# EAGLE library part LT3462A (library PowerProducts)
LT-Spice library generated with : ltspice.ulp from: E:/Programme/LTC/LTspiceIV/lib/sym/PowerProducts/LT3464*.asy at 05.10.2012 11:13:57
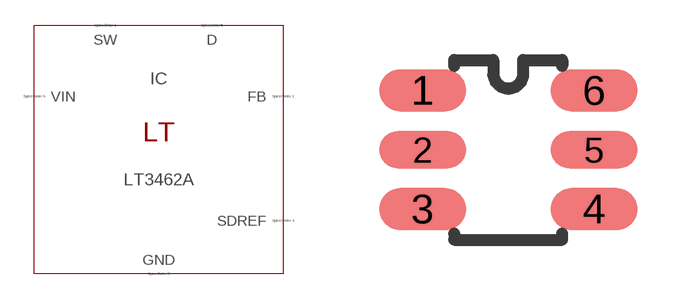
[diagram p35: symbol with the pads of SOT6(S6); footprint SOT6(S6)]

Designator prefix IC

## LT3462A (SPICEMODEL: LT1762.lib; SPICEPREFIX: X; VALUE2: LT1762)  [SOT6(S6)]
1  SW  pas
2  GND  pas
3  FB  pas
4  SDREF  pas
5  D  pas
6  VIN  pas

## Footprint SOT6(S6) (pad centres in mm)
Package generated from: SOT6(S6).asc (!PADS-POWERPCB-V9.3-BASIC! DESIGN DATABASE ASCII FILE 1.0) with :import-pads-powerpcb-v5.ulp Version 1.0.1 at 04.10.2012 14:11:36
smd 2.175 x 1.05: 1 -2.145,1.485; 3 -2.145,-1.485; 4 2.145,-1.485; 6 2.145,1.485
smd 2.175 x 0.93: 2 -2.145,0; 5 2.145,0